# EAGLE library part LTC3499 (library PowerProducts)
750mA Synchronous Step-Up DC/DC Converters with Reverse-Battery Protection
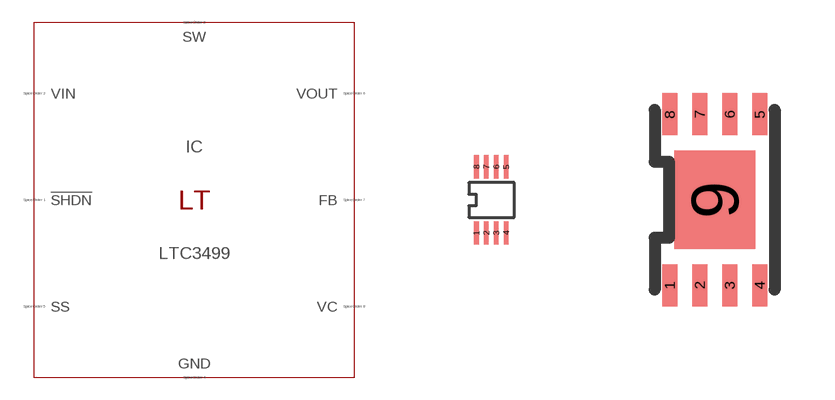
[diagram p196: symbol with the pads of MSOP8(MS8); footprints MSOP8(MS8), DFN8(DD)]

Designator prefix IC

## LTC3499MS8 (SPICEMODEL: LTC3499.sub; SPICEPREFIX: X; VALUE2: LTC3499)  [MSOP8(MS8)]
1  !SHDN  pas
2  VIN  pas
3  SW  pas
4  GND  pas
5  SS  pas
6  VOUT  pas
7  FB  pas
8  VC  pas

## LTC3499 (SPICEMODEL: LTC3499.sub; SPICEPREFIX: X; VALUE2: LTC3499)  [DFN8(DD)]
1  !SHDN  pas
2  VIN  pas
3  SW  pas
4  GND  pas
5  SS  pas
6  VOUT  pas
7  FB  pas
8  VC  pas
9  GND  pas

## Footprint MSOP8(MS8) (pad centres in mm)
Package generated from: MSOP8(MS8).asc (!PADS-POWERPCB-V5.0-BASIC! DESIGN DATABASE ASCII FILE 1.0) with :import-pads-powerpcb-v5.ulp Version 1.0.1 at 04.10.2012 14:11:20
smd 0.116 x 0.581: 1 -0.372,-0.827; 2 -0.124,-0.827; 3 0.124,-0.827; 4 0.372,-0.827; 5 0.372,0.827; 6 0.124,0.827; 7 -0.124,0.827; 8 -0.372,0.827

## Footprint DFN8(DD) (pad centres in mm)
Package generated from: DFN8(DD).asc (!PADS-POWERPCB-V5.0-BASIC! DESIGN DATABASE ASCII FILE 1.0) with :import-pads-powerpcb-v5.ulp Version 1.0.1 at 04.10.2012 14:11:17
smd 0.375 x 1.05: 1 -1.125,-2.138; 2 -0.375,-2.138; 3 0.375,-2.138; 4 1.125,-2.138; 5 1.125,2.138; 6 0.375,2.138; 7 -0.375,2.138; 8 -1.125,2.138
smd 2.025 x 2.475: 9 0,0